# Altium footprint library TestPointLib.PcbLib: 1 footprints
Each footprint in its own frame and in the unit in brackets; x right, y up, seen from the top. Pads: shape width x height; smd on the part's side, far side on the other; paste and mask are expansions set on the pad; w line width, h text height; cw(c..) or ccw(c..) is an arc to the next point about the centre after c.
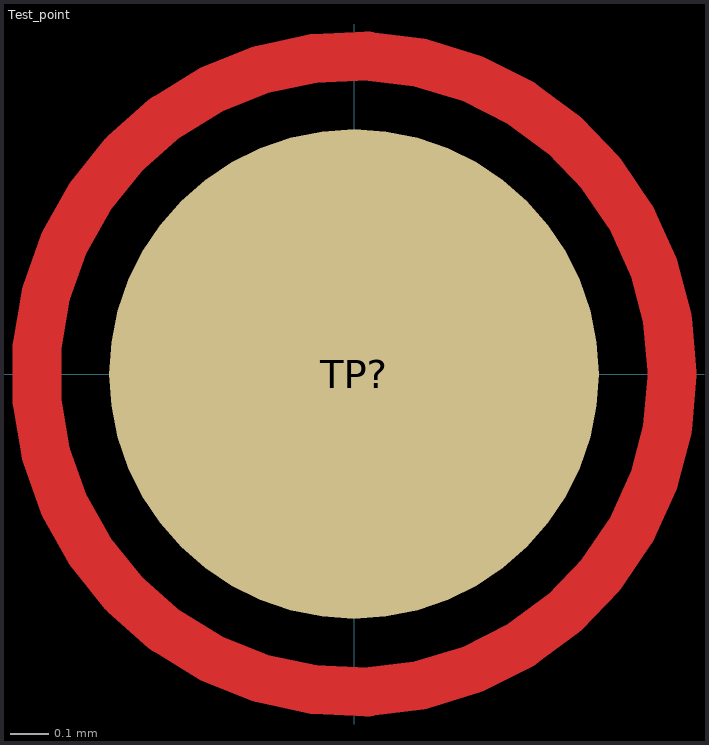
[diagram p0: the footprint, top view; thin cyan lines are the x and y axes]

## Test_point [mil] "TestPoint"
height 1
pads (1):
  round 50 smd paste-30: TP?(0,0)
Top Layer:
  circle w5: c0,0 r32.5
Top Solder:
  circle w25: c0,0 r12.5
3D body: height 50, standoff 0, extent -50100,-50100 -49900,-49900